# EAGLE library part 691412120009 (library Wurth_Terminal_Blocks_Connectors_rev15d)
WR-TBL Serie 412 - 3.5mm Screwless 45° Entry Grey - 1.5mm2 Wires, 9 Pins
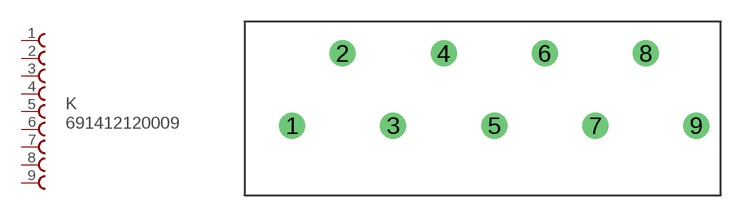
[diagram p216: symbol with the pads of 691412120009; footprint 691412120009]

Designator prefix K

## 691412120009  [691412120009]
1  1  pas
2  2  pas
3  3  pas
4  4  pas
5  5  pas
6  6  pas
7  7  pas
8  8  pas
9  9  pas

## Footprint 691412120009 (pad centres in mm)
WR-TBL Serie 412 - 3.5mm Screwless 45° Entry Grey - 1.5mm2 Wires, 9 Pins
drill 1.2: 1 -27.97,0; 2 -24.47,5; 3 -20.97,0; 4 -17.47,5; 5 -13.97,0; 6 -10.47,5; 7 -6.97,0; 8 -3.47,5; 9 0.03,0